# EAGLE library part AS3701A-BWLM-51 (library AS3701A-PMIC)
Ic Pmu Charger 17wlp
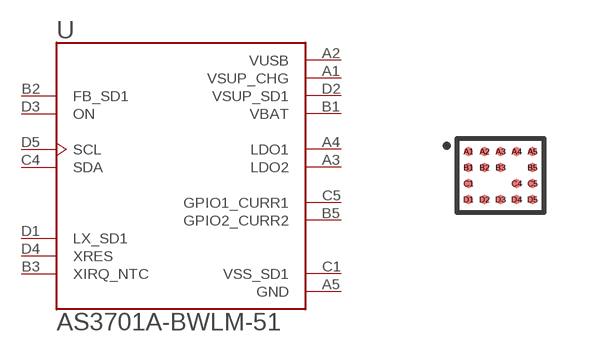
[diagram p0: symbol with the pads of BGA17N40P5X4_217X185X63; footprint BGA17N40P5X4_217X185X63]

Designator prefix U

## AS3701A-BWLM-51 (Description: Ic Pmu Charger 17wlp; Digi-Key_Part_Number: AS3701A-BWLM-51CT-ND; Digi-Key_Purchase_URL: https://www.digikey.com/product-detail/en/ams/AS3701A-BWLM-51/AS3701A-BWLM-51CT-ND/6131664?utm_source=snapeda&utm_medium=aggregator&utm_campaign=symbol; MF: ams; MP: AS3701A-BWLM-51; Package: UFBGA-17 ams)  [BGA17N40P5X4_217X185X63]
A1  VSUP_CHG  pwr
A2  VUSB  pwr
A3  LDO2  out
A4  LDO1  out
A5  GND  pwr
B1  VBAT  pwr
B2  FB_SD1  in
B3  XIRQ_NTC
B5  GPIO2_CURR2
C1  VSS_SD1  pwr
C4  SDA
C5  GPIO1_CURR1
D1  LX_SD1
D2  VSUP_SD1  pwr
D3  ON  in
D4  XRES
D5  SCL  in

## Footprint BGA17N40P5X4_217X185X63 (pad centres in mm)
smd 0.22 x 0.22: A1 -0.8,0.6; A2 -0.4,0.6; A3 0,0.6; A4 0.4,0.6; A5 0.8,0.6; B1 -0.8,0.2; B2 -0.4,0.2; B3 0,0.2; B5 0.8,0.2; C1 -0.8,-0.2; C4 0.4,-0.2; C5 0.8,-0.2; D1 -0.8,-0.6; D2 -0.4,-0.6; D3 0,-0.6; D4 0.4,-0.6; D5 0.8,-0.6